# Altium integrated library joystick.IntLib: 1 symbol
Pins are listed as number, name and electrical type; pins without a type are passive.

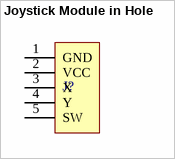
[diagram p0: symbol Joystick Module in Hole]

## Joystick Module in Hole
designator J?
PartNumber: Arduino PS2 joystick Module
footprint JOYSTOCK_IN_HOLE
pins: 1 GND, 2 VCC, 3 X, 4 Y, 5 SW